# Altium footprint library Connector_Phoenix_GMSTB.PcbLib: 88 footprints (part 3 of 6)
Each footprint in its own frame and in the unit in brackets; x right, y up, seen from the top. Pads: shape width x height; smd on the part's side, far side on the other; paste and mask are expansions set on the pad; w line width, h text height; cw(c..) or ccw(c..) is an arc to the next point about the centre after c.
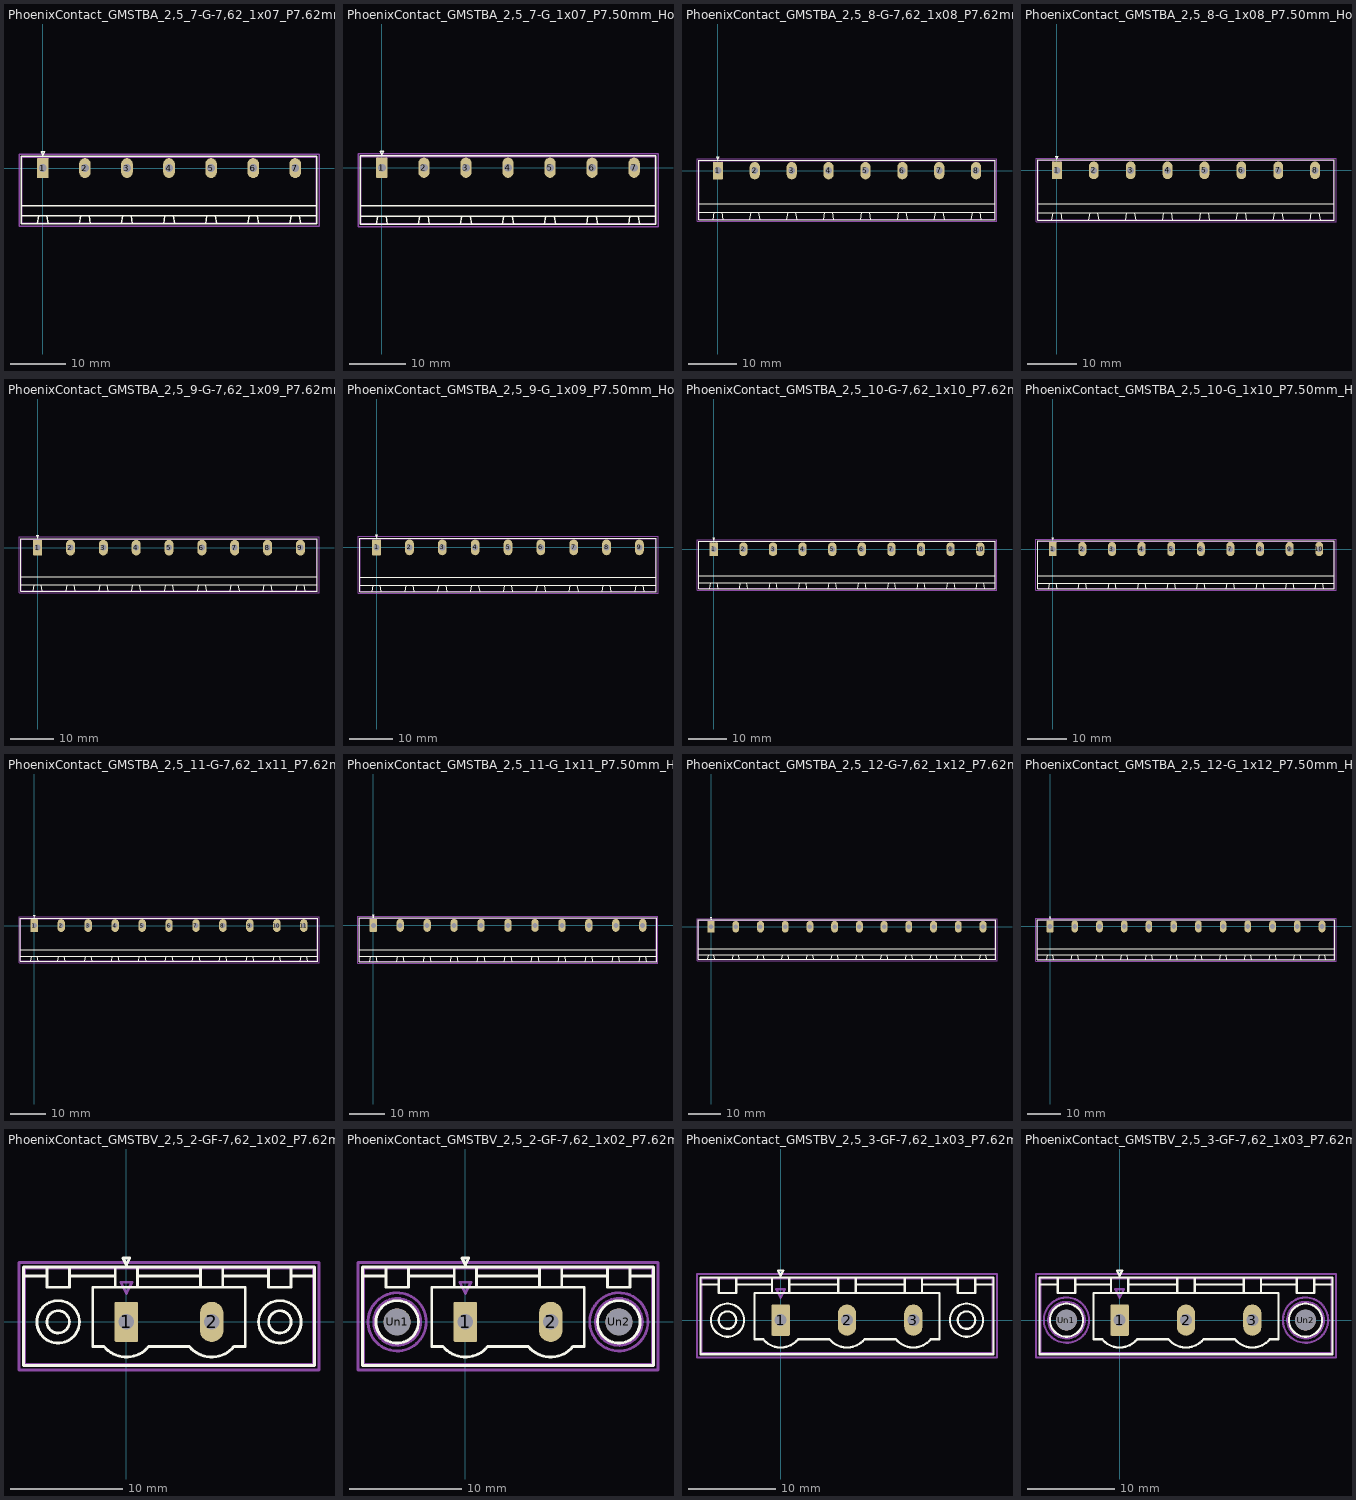
[diagram p2: the footprints below, top view; thin cyan lines are the x and y axes]

## PhoenixContact_GMSTBA_2,5_7-G-7,62_1x07_P7.62mm_Horizontal [mm]
pads (7):
  rrect12% 2.1x3.6 hole 1.4: 1(0,0)
  rrect100% 2.1x3.6 hole 1.4: 2(7.62,0) 3(15.24,0) 4(22.86,0) 5(30.48,0) 6(38.1,0) 7(45.72,0)
F.SilkS:
  lines w0.254: -3.92,-10.11 49.64,-10.11 49.64,2.11 -3.92,2.11 -3.92,-10.11 ; -3.92,-8.61 49.64,-8.61 49.64,-6.81 -3.92,-6.81 -3.92,-8.61 ; -1,-10.11 -0.75,-8.61 0.75,-8.61 1,-10.11 -1,-10.11 ; -0.3,2.91 0,2.31 0.3,2.91 -0.3,2.91 ; 6.62,-10.11 6.87,-8.61 8.37,-8.61 8.62,-10.11 6.62,-10.11 ; 14.24,-10.11 14.49,-8.61 15.99,-8.61 16.24,-10.11 14.24,-10.11 ; 21.86,-10.11 22.11,-8.61 23.61,-8.61 23.86,-10.11 21.86,-10.11 ; 29.48,-10.11 29.73,-8.61 31.23,-8.61 31.48,-10.11 29.48,-10.11 ; 37.1,-10.11 37.35,-8.61 38.85,-8.61 39.1,-10.11 37.1,-10.11 ; 44.72,-10.11 44.97,-8.61 46.47,-8.61 46.72,-10.11 44.72,-10.11
Top Assembly:
  lines w0.254: -0.95,2 0,0.5 0.95,2 ; -3.81,-10 49.53,-10 49.53,2 -3.81,2 -3.81,-10
  text "'.Designator'" at 18.813,0.46 h1
Top Courtyard:
  lines w0.254: -4.32,-10.5 50.03,-10.5 50.03,2.5 -4.32,2.5 -4.32,-10.5
Top Designator:
  text ".Designator" at 15.237,-4.303 h1.52

## PhoenixContact_GMSTBA_2,5_7-G_1x07_P7.50mm_Horizontal [mm]
pads (7):
  rrect12% 2x3.6 hole 1.4: 1(0,0)
  rrect100% 2x3.6 hole 1.4: 2(7.5,0) 3(15,0) 4(22.5,0) 5(30,0) 6(37.5,0) 7(45,0)
F.SilkS:
  lines w0.254: -3.86,-10.11 48.86,-10.11 48.86,2.11 -3.86,2.11 -3.86,-10.11 ; -3.86,-8.61 48.86,-8.61 48.86,-6.81 -3.86,-6.81 -3.86,-8.61 ; -1,-10.11 -0.75,-8.61 0.75,-8.61 1,-10.11 -1,-10.11 ; -0.3,2.91 0,2.31 0.3,2.91 -0.3,2.91 ; 6.5,-10.11 6.75,-8.61 8.25,-8.61 8.5,-10.11 6.5,-10.11 ; 14,-10.11 14.25,-8.61 15.75,-8.61 16,-10.11 14,-10.11 ; 21.5,-10.11 21.75,-8.61 23.25,-8.61 23.5,-10.11 21.5,-10.11 ; 29,-10.11 29.25,-8.61 30.75,-8.61 31,-10.11 29,-10.11 ; 36.5,-10.11 36.75,-8.61 38.25,-8.61 38.5,-10.11 36.5,-10.11 ; 44,-10.11 44.25,-8.61 45.75,-8.61 46,-10.11 44,-10.11
Top Assembly:
  lines w0.254: -0.95,2 0,0.5 0.95,2 ; -3.75,-10 48.75,-10 48.75,2 -3.75,2 -3.75,-10
  text "'.Designator'" at 18.453,0.46 h1
Top Courtyard:
  lines w0.254: -4.25,-10.5 49.25,-10.5 49.25,2.5 -4.25,2.5 -4.25,-10.5
Top Designator:
  text ".Designator" at 14.882,-4.303 h1.52

## PhoenixContact_GMSTBA_2,5_8-G-7,62_1x08_P7.62mm_Horizontal [mm]
pads (8):
  rrect12% 2.1x3.6 hole 1.4: 1(0,0)
  rrect100% 2.1x3.6 hole 1.4: 2(7.62,0) 3(15.24,0) 4(22.86,0) 5(30.48,0) 6(38.1,0) 7(45.72,0) 8(53.34,0)
F.SilkS:
  lines w0.254: -3.92,-10.11 57.26,-10.11 57.26,2.11 -3.92,2.11 -3.92,-10.11 ; -3.92,-8.61 57.26,-8.61 57.26,-6.81 -3.92,-6.81 -3.92,-8.61 ; -1,-10.11 -0.75,-8.61 0.75,-8.61 1,-10.11 -1,-10.11 ; -0.3,2.91 0,2.31 0.3,2.91 -0.3,2.91 ; 6.62,-10.11 6.87,-8.61 8.37,-8.61 8.62,-10.11 6.62,-10.11 ; 14.24,-10.11 14.49,-8.61 15.99,-8.61 16.24,-10.11 14.24,-10.11 ; 21.86,-10.11 22.11,-8.61 23.61,-8.61 23.86,-10.11 21.86,-10.11 ; 29.48,-10.11 29.73,-8.61 31.23,-8.61 31.48,-10.11 29.48,-10.11 ; 37.1,-10.11 37.35,-8.61 38.85,-8.61 39.1,-10.11 37.1,-10.11 ; 44.72,-10.11 44.97,-8.61 46.47,-8.61 46.72,-10.11 44.72,-10.11 ; 52.34,-10.11 52.59,-8.61 54.09,-8.61 54.34,-10.11 52.34,-10.11
Top Assembly:
  lines w0.254: -0.95,2 0,0.5 0.95,2 ; -3.81,-10 57.15,-10 57.15,2 -3.81,2 -3.81,-10
  text "'.Designator'" at 22.623,0.46 h1
Top Courtyard:
  lines w0.254: -4.32,-10.5 57.65,-10.5 57.65,2.5 -4.32,2.5 -4.32,-10.5
Top Designator:
  text ".Designator" at 19.047,-4.303 h1.52

## PhoenixContact_GMSTBA_2,5_8-G_1x08_P7.50mm_Horizontal [mm]
pads (8):
  rrect12% 2x3.6 hole 1.4: 1(0,0)
  rrect100% 2x3.6 hole 1.4: 2(7.5,0) 3(15,0) 4(22.5,0) 5(30,0) 6(37.5,0) 7(45,0) 8(52.5,0)
F.SilkS:
  lines w0.254: -3.86,-10.11 56.36,-10.11 56.36,2.11 -3.86,2.11 -3.86,-10.11 ; -3.86,-8.61 56.36,-8.61 56.36,-6.81 -3.86,-6.81 -3.86,-8.61 ; -1,-10.11 -0.75,-8.61 0.75,-8.61 1,-10.11 -1,-10.11 ; -0.3,2.91 0,2.31 0.3,2.91 -0.3,2.91 ; 6.5,-10.11 6.75,-8.61 8.25,-8.61 8.5,-10.11 6.5,-10.11 ; 14,-10.11 14.25,-8.61 15.75,-8.61 16,-10.11 14,-10.11 ; 21.5,-10.11 21.75,-8.61 23.25,-8.61 23.5,-10.11 21.5,-10.11 ; 29,-10.11 29.25,-8.61 30.75,-8.61 31,-10.11 29,-10.11 ; 36.5,-10.11 36.75,-8.61 38.25,-8.61 38.5,-10.11 36.5,-10.11 ; 44,-10.11 44.25,-8.61 45.75,-8.61 46,-10.11 44,-10.11 ; 51.5,-10.11 51.75,-8.61 53.25,-8.61 53.5,-10.11 51.5,-10.11
Top Assembly:
  lines w0.254: -0.95,2 0,0.5 0.95,2 ; -3.75,-10 56.25,-10 56.25,2 -3.75,2 -3.75,-10
  text "'.Designator'" at 22.203,0.46 h1
Top Courtyard:
  lines w0.254: -4.25,-10.5 56.75,-10.5 56.75,2.5 -4.25,2.5 -4.25,-10.5
Top Designator:
  text ".Designator" at 18.632,-4.303 h1.52

## PhoenixContact_GMSTBA_2,5_9-G-7,62_1x09_P7.62mm_Horizontal [mm]
pads (9):
  rrect12% 2.1x3.6 hole 1.4: 1(0,0)
  rrect100% 2.1x3.6 hole 1.4: 2(7.62,0) 3(15.24,0) 4(22.86,0) 5(30.48,0) 6(38.1,0) 7(45.72,0) 8(53.34,0) 9(60.96,0)
F.SilkS:
  lines w0.254: -3.92,-10.11 64.88,-10.11 64.88,2.11 -3.92,2.11 -3.92,-10.11 ; -3.92,-8.61 64.88,-8.61 64.88,-6.81 -3.92,-6.81 -3.92,-8.61 ; -1,-10.11 -0.75,-8.61 0.75,-8.61 1,-10.11 -1,-10.11 ; -0.3,2.91 0,2.31 0.3,2.91 -0.3,2.91 ; 6.62,-10.11 6.87,-8.61 8.37,-8.61 8.62,-10.11 6.62,-10.11 ; 14.24,-10.11 14.49,-8.61 15.99,-8.61 16.24,-10.11 14.24,-10.11 ; 21.86,-10.11 22.11,-8.61 23.61,-8.61 23.86,-10.11 21.86,-10.11 ; 29.48,-10.11 29.73,-8.61 31.23,-8.61 31.48,-10.11 29.48,-10.11 ; 37.1,-10.11 37.35,-8.61 38.85,-8.61 39.1,-10.11 37.1,-10.11 ; 44.72,-10.11 44.97,-8.61 46.47,-8.61 46.72,-10.11 44.72,-10.11 ; 52.34,-10.11 52.59,-8.61 54.09,-8.61 54.34,-10.11 52.34,-10.11 ; 59.96,-10.11 60.21,-8.61 61.71,-8.61 61.96,-10.11 59.96,-10.11
Top Assembly:
  lines w0.254: -0.95,2 0,0.5 0.95,2 ; -3.81,-10 64.77,-10 64.77,2 -3.81,2 -3.81,-10
  text "'.Designator'" at 26.433,0.46 h1
Top Courtyard:
  lines w0.254: -4.32,-10.5 65.27,-10.5 65.27,2.5 -4.32,2.5 -4.32,-10.5
Top Designator:
  text ".Designator" at 22.857,-4.303 h1.52

## PhoenixContact_GMSTBA_2,5_9-G_1x09_P7.50mm_Horizontal [mm]
pads (9):
  rrect12% 2x3.6 hole 1.4: 1(0,0)
  rrect100% 2x3.6 hole 1.4: 2(7.5,0) 3(15,0) 4(22.5,0) 5(30,0) 6(37.5,0) 7(45,0) 8(52.5,0) 9(60,0)
F.SilkS:
  lines w0.254: -3.86,-10.11 63.86,-10.11 63.86,2.11 -3.86,2.11 -3.86,-10.11 ; -3.86,-8.61 63.86,-8.61 63.86,-6.81 -3.86,-6.81 -3.86,-8.61 ; -1,-10.11 -0.75,-8.61 0.75,-8.61 1,-10.11 -1,-10.11 ; -0.3,2.91 0,2.31 0.3,2.91 -0.3,2.91 ; 6.5,-10.11 6.75,-8.61 8.25,-8.61 8.5,-10.11 6.5,-10.11 ; 14,-10.11 14.25,-8.61 15.75,-8.61 16,-10.11 14,-10.11 ; 21.5,-10.11 21.75,-8.61 23.25,-8.61 23.5,-10.11 21.5,-10.11 ; 29,-10.11 29.25,-8.61 30.75,-8.61 31,-10.11 29,-10.11 ; 36.5,-10.11 36.75,-8.61 38.25,-8.61 38.5,-10.11 36.5,-10.11 ; 44,-10.11 44.25,-8.61 45.75,-8.61 46,-10.11 44,-10.11 ; 51.5,-10.11 51.75,-8.61 53.25,-8.61 53.5,-10.11 51.5,-10.11 ; 59,-10.11 59.25,-8.61 60.75,-8.61 61,-10.11 59,-10.11
Top Assembly:
  lines w0.254: -0.95,2 0,0.5 0.95,2 ; -3.75,-10 63.75,-10 63.75,2 -3.75,2 -3.75,-10
  text "'.Designator'" at 25.953,0.46 h1
Top Courtyard:
  lines w0.254: -4.25,-10.5 64.25,-10.5 64.25,2.5 -4.25,2.5 -4.25,-10.5
Top Designator:
  text ".Designator" at 22.382,-4.303 h1.52

## PhoenixContact_GMSTBA_2,5_10-G-7,62_1x10_P7.62mm_Horizontal [mm]
pads (10):
  rrect12% 2.1x3.6 hole 1.4: 1(0,0)
  rrect100% 2.1x3.6 hole 1.4: 2(7.62,0) 3(15.24,0) 4(22.86,0) 5(30.48,0) 6(38.1,0) 7(45.72,0) 8(53.34,0) 9(60.96,0) 10(68.58,0)
F.SilkS:
  lines w0.254: -3.92,-10.11 72.5,-10.11 72.5,2.11 -3.92,2.11 -3.92,-10.11 ; -3.92,-8.61 72.5,-8.61 72.5,-6.81 -3.92,-6.81 -3.92,-8.61 ; -1,-10.11 -0.75,-8.61 0.75,-8.61 1,-10.11 -1,-10.11 ; -0.3,2.91 0,2.31 0.3,2.91 -0.3,2.91 ; 6.62,-10.11 6.87,-8.61 8.37,-8.61 8.62,-10.11 6.62,-10.11 ; 14.24,-10.11 14.49,-8.61 15.99,-8.61 16.24,-10.11 14.24,-10.11 ; 21.86,-10.11 22.11,-8.61 23.61,-8.61 23.86,-10.11 21.86,-10.11 ; 29.48,-10.11 29.73,-8.61 31.23,-8.61 31.48,-10.11 29.48,-10.11 ; 37.1,-10.11 37.35,-8.61 38.85,-8.61 39.1,-10.11 37.1,-10.11 ; 44.72,-10.11 44.97,-8.61 46.47,-8.61 46.72,-10.11 44.72,-10.11 ; 52.34,-10.11 52.59,-8.61 54.09,-8.61 54.34,-10.11 52.34,-10.11 ; 59.96,-10.11 60.21,-8.61 61.71,-8.61 61.96,-10.11 59.96,-10.11 ; 67.58,-10.11 67.83,-8.61 69.33,-8.61 69.58,-10.11 67.58,-10.11
Top Assembly:
  lines w0.254: -0.95,2 0,0.5 0.95,2 ; -3.81,-10 72.39,-10 72.39,2 -3.81,2 -3.81,-10
  text "'.Designator'" at 30.243,0.46 h1
Top Courtyard:
  lines w0.254: -4.32,-10.5 72.89,-10.5 72.89,2.5 -4.32,2.5 -4.32,-10.5
Top Designator:
  text ".Designator" at 26.667,-4.303 h1.52

## PhoenixContact_GMSTBA_2,5_10-G_1x10_P7.50mm_Horizontal [mm]
pads (10):
  rrect12% 2x3.6 hole 1.4: 1(0,0)
  rrect100% 2x3.6 hole 1.4: 2(7.5,0) 3(15,0) 4(22.5,0) 5(30,0) 6(37.5,0) 7(45,0) 8(52.5,0) 9(60,0) 10(67.5,0)
F.SilkS:
  lines w0.254: -3.86,-10.11 71.36,-10.11 71.36,2.11 -3.86,2.11 -3.86,-10.11 ; -3.86,-8.61 71.36,-8.61 71.36,-6.81 -3.86,-6.81 -3.86,-8.61 ; -1,-10.11 -0.75,-8.61 0.75,-8.61 1,-10.11 -1,-10.11 ; -0.3,2.91 0,2.31 0.3,2.91 -0.3,2.91 ; 6.5,-10.11 6.75,-8.61 8.25,-8.61 8.5,-10.11 6.5,-10.11 ; 14,-10.11 14.25,-8.61 15.75,-8.61 16,-10.11 14,-10.11 ; 21.5,-10.11 21.75,-8.61 23.25,-8.61 23.5,-10.11 21.5,-10.11 ; 29,-10.11 29.25,-8.61 30.75,-8.61 31,-10.11 29,-10.11 ; 36.5,-10.11 36.75,-8.61 38.25,-8.61 38.5,-10.11 36.5,-10.11 ; 44,-10.11 44.25,-8.61 45.75,-8.61 46,-10.11 44,-10.11 ; 51.5,-10.11 51.75,-8.61 53.25,-8.61 53.5,-10.11 51.5,-10.11 ; 59,-10.11 59.25,-8.61 60.75,-8.61 61,-10.11 59,-10.11 ; 66.5,-10.11 66.75,-8.61 68.25,-8.61 68.5,-10.11 66.5,-10.11
Top Assembly:
  lines w0.254: -0.95,2 0,0.5 0.95,2 ; -3.75,-10 71.25,-10 71.25,2 -3.75,2 -3.75,-10
  text "'.Designator'" at 29.703,0.46 h1
Top Courtyard:
  lines w0.254: -4.25,-10.5 71.75,-10.5 71.75,2.5 -4.25,2.5 -4.25,-10.5
Top Designator:
  text ".Designator" at 26.132,-4.303 h1.52

## PhoenixContact_GMSTBA_2,5_11-G-7,62_1x11_P7.62mm_Horizontal [mm]
pads (11):
  rrect12% 2.1x3.6 hole 1.4: 1(0,0)
  rrect100% 2.1x3.6 hole 1.4: 2(7.62,0) 3(15.24,0) 4(22.86,0) 5(30.48,0) 6(38.1,0) 7(45.72,0) 8(53.34,0) 9(60.96,0) 10(68.58,0) 11(76.2,0)
F.SilkS:
  lines w0.254: -3.92,-10.11 80.12,-10.11 80.12,2.11 -3.92,2.11 -3.92,-10.11 ; -3.92,-8.61 80.12,-8.61 80.12,-6.81 -3.92,-6.81 -3.92,-8.61 ; -1,-10.11 -0.75,-8.61 0.75,-8.61 1,-10.11 -1,-10.11 ; -0.3,2.91 0,2.31 0.3,2.91 -0.3,2.91 ; 6.62,-10.11 6.87,-8.61 8.37,-8.61 8.62,-10.11 6.62,-10.11 ; 14.24,-10.11 14.49,-8.61 15.99,-8.61 16.24,-10.11 14.24,-10.11 ; 21.86,-10.11 22.11,-8.61 23.61,-8.61 23.86,-10.11 21.86,-10.11 ; 29.48,-10.11 29.73,-8.61 31.23,-8.61 31.48,-10.11 29.48,-10.11 ; 37.1,-10.11 37.35,-8.61 38.85,-8.61 39.1,-10.11 37.1,-10.11 ; 44.72,-10.11 44.97,-8.61 46.47,-8.61 46.72,-10.11 44.72,-10.11 ; 52.34,-10.11 52.59,-8.61 54.09,-8.61 54.34,-10.11 52.34,-10.11 ; 59.96,-10.11 60.21,-8.61 61.71,-8.61 61.96,-10.11 59.96,-10.11 ; 67.58,-10.11 67.83,-8.61 69.33,-8.61 69.58,-10.11 67.58,-10.11 ; 75.2,-10.11 75.45,-8.61 76.95,-8.61 77.2,-10.11 75.2,-10.11
Top Assembly:
  lines w0.254: -0.95,2 0,0.5 0.95,2 ; -3.81,-10 80.01,-10 80.01,2 -3.81,2 -3.81,-10
  text "'.Designator'" at 34.053,0.46 h1
Top Courtyard:
  lines w0.254: -4.32,-10.5 80.51,-10.5 80.51,2.5 -4.32,2.5 -4.32,-10.5
Top Designator:
  text ".Designator" at 30.477,-4.303 h1.52

## PhoenixContact_GMSTBA_2,5_11-G_1x11_P7.50mm_Horizontal [mm]
pads (11):
  rrect12% 2x3.6 hole 1.4: 1(0,0)
  rrect100% 2x3.6 hole 1.4: 2(7.5,0) 3(15,0) 4(22.5,0) 5(30,0) 6(37.5,0) 7(45,0) 8(52.5,0) 9(60,0) 10(67.5,0) 11(75,0)
F.SilkS:
  lines w0.254: -3.86,-10.11 78.86,-10.11 78.86,2.11 -3.86,2.11 -3.86,-10.11 ; -3.86,-8.61 78.86,-8.61 78.86,-6.81 -3.86,-6.81 -3.86,-8.61 ; -1,-10.11 -0.75,-8.61 0.75,-8.61 1,-10.11 -1,-10.11 ; -0.3,2.91 0,2.31 0.3,2.91 -0.3,2.91 ; 6.5,-10.11 6.75,-8.61 8.25,-8.61 8.5,-10.11 6.5,-10.11 ; 14,-10.11 14.25,-8.61 15.75,-8.61 16,-10.11 14,-10.11 ; 21.5,-10.11 21.75,-8.61 23.25,-8.61 23.5,-10.11 21.5,-10.11 ; 29,-10.11 29.25,-8.61 30.75,-8.61 31,-10.11 29,-10.11 ; 36.5,-10.11 36.75,-8.61 38.25,-8.61 38.5,-10.11 36.5,-10.11 ; 44,-10.11 44.25,-8.61 45.75,-8.61 46,-10.11 44,-10.11 ; 51.5,-10.11 51.75,-8.61 53.25,-8.61 53.5,-10.11 51.5,-10.11 ; 59,-10.11 59.25,-8.61 60.75,-8.61 61,-10.11 59,-10.11 ; 66.5,-10.11 66.75,-8.61 68.25,-8.61 68.5,-10.11 66.5,-10.11 ; 74,-10.11 74.25,-8.61 75.75,-8.61 76,-10.11 74,-10.11
Top Assembly:
  lines w0.254: -0.95,2 0,0.5 0.95,2 ; -3.75,-10 78.75,-10 78.75,2 -3.75,2 -3.75,-10
  text "'.Designator'" at 33.453,0.46 h1
Top Courtyard:
  lines w0.254: -4.25,-10.5 79.25,-10.5 79.25,2.5 -4.25,2.5 -4.25,-10.5
Top Designator:
  text ".Designator" at 29.882,-4.303 h1.52

## PhoenixContact_GMSTBA_2,5_12-G-7,62_1x12_P7.62mm_Horizontal [mm]
pads (12):
  rrect12% 2.1x3.6 hole 1.4: 1(0,0)
  rrect100% 2.1x3.6 hole 1.4: 2(7.62,0) 3(15.24,0) 4(22.86,0) 5(30.48,0) 6(38.1,0) 7(45.72,0) 8(53.34,0) 9(60.96,0) 10(68.58,0) 11(76.2,0) 12(83.82,0)
F.SilkS:
  lines w0.254: -3.92,-10.11 87.74,-10.11 87.74,2.11 -3.92,2.11 -3.92,-10.11 ; -3.92,-8.61 87.74,-8.61 87.74,-6.81 -3.92,-6.81 -3.92,-8.61 ; -1,-10.11 -0.75,-8.61 0.75,-8.61 1,-10.11 -1,-10.11 ; -0.3,2.91 0,2.31 0.3,2.91 -0.3,2.91 ; 6.62,-10.11 6.87,-8.61 8.37,-8.61 8.62,-10.11 6.62,-10.11 ; 14.24,-10.11 14.49,-8.61 15.99,-8.61 16.24,-10.11 14.24,-10.11 ; 21.86,-10.11 22.11,-8.61 23.61,-8.61 23.86,-10.11 21.86,-10.11 ; 29.48,-10.11 29.73,-8.61 31.23,-8.61 31.48,-10.11 29.48,-10.11 ; 37.1,-10.11 37.35,-8.61 38.85,-8.61 39.1,-10.11 37.1,-10.11 ; 44.72,-10.11 44.97,-8.61 46.47,-8.61 46.72,-10.11 44.72,-10.11 ; 52.34,-10.11 52.59,-8.61 54.09,-8.61 54.34,-10.11 52.34,-10.11 ; 59.96,-10.11 60.21,-8.61 61.71,-8.61 61.96,-10.11 59.96,-10.11 ; 67.58,-10.11 67.83,-8.61 69.33,-8.61 69.58,-10.11 67.58,-10.11 ; 75.2,-10.11 75.45,-8.61 76.95,-8.61 77.2,-10.11 75.2,-10.11 ; 82.82,-10.11 83.07,-8.61 84.57,-8.61 84.82,-10.11 82.82,-10.11
Top Assembly:
  lines w0.254: -0.95,2 0,0.5 0.95,2 ; -3.81,-10 87.63,-10 87.63,2 -3.81,2 -3.81,-10
  text "'.Designator'" at 37.863,0.46 h1
Top Courtyard:
  lines w0.254: -4.32,-10.5 88.13,-10.5 88.13,2.5 -4.32,2.5 -4.32,-10.5
Top Designator:
  text ".Designator" at 34.287,-4.303 h1.52

## PhoenixContact_GMSTBA_2,5_12-G_1x12_P7.50mm_Horizontal [mm]
pads (12):
  rrect12% 2x3.6 hole 1.4: 1(0,0)
  rrect100% 2x3.6 hole 1.4: 2(7.5,0) 3(15,0) 4(22.5,0) 5(30,0) 6(37.5,0) 7(45,0) 8(52.5,0) 9(60,0) 10(67.5,0) 11(75,0) 12(82.5,0)
F.SilkS:
  lines w0.254: -3.86,-10.11 86.36,-10.11 86.36,2.11 -3.86,2.11 -3.86,-10.11 ; -3.86,-8.61 86.36,-8.61 86.36,-6.81 -3.86,-6.81 -3.86,-8.61 ; -1,-10.11 -0.75,-8.61 0.75,-8.61 1,-10.11 -1,-10.11 ; -0.3,2.91 0,2.31 0.3,2.91 -0.3,2.91 ; 6.5,-10.11 6.75,-8.61 8.25,-8.61 8.5,-10.11 6.5,-10.11 ; 14,-10.11 14.25,-8.61 15.75,-8.61 16,-10.11 14,-10.11 ; 21.5,-10.11 21.75,-8.61 23.25,-8.61 23.5,-10.11 21.5,-10.11 ; 29,-10.11 29.25,-8.61 30.75,-8.61 31,-10.11 29,-10.11 ; 36.5,-10.11 36.75,-8.61 38.25,-8.61 38.5,-10.11 36.5,-10.11 ; 44,-10.11 44.25,-8.61 45.75,-8.61 46,-10.11 44,-10.11 ; 51.5,-10.11 51.75,-8.61 53.25,-8.61 53.5,-10.11 51.5,-10.11 ; 59,-10.11 59.25,-8.61 60.75,-8.61 61,-10.11 59,-10.11 ; 66.5,-10.11 66.75,-8.61 68.25,-8.61 68.5,-10.11 66.5,-10.11 ; 74,-10.11 74.25,-8.61 75.75,-8.61 76,-10.11 74,-10.11 ; 81.5,-10.11 81.75,-8.61 83.25,-8.61 83.5,-10.11 81.5,-10.11
Top Assembly:
  lines w0.254: -0.95,2 0,0.5 0.95,2 ; -3.75,-10 86.25,-10 86.25,2 -3.75,2 -3.75,-10
  text "'.Designator'" at 37.203,0.46 h1
Top Courtyard:
  lines w0.254: -4.25,-10.5 86.75,-10.5 86.75,2.5 -4.25,2.5 -4.25,-10.5
Top Designator:
  text ".Designator" at 33.632,-4.303 h1.52

## PhoenixContact_GMSTBV_2,5_2-GF-7,62_1x02_P7.62mm_Vertical_ThreadedFlange [mm]
pads (2):
  rrect12% 2.1x3.6 hole 1.4: 1(0,0)
  rrect100% 2.1x3.6 hole 1.4: 2(7.62,0)
F.SilkS:
  circle w0.254: c13.72,0 r1.9
  circle w0.254: c13.72,0 r1
  circle w0.254: c-6.1,0 r1.9
  circle w0.254: c-6.1,0 r1
  lines w0.254: -9.21,4.1 -7.21,4.1 ; -5.1,4.1 -1,4.1 ; 1,4.1 6.62,4.1 ; 1.987,-2.216 cw(c0,-0.55) -2,-2.2 -3.01,-2.2 -3.01,3.1 10.63,3.1 10.63,-2.2 9.62,-2.2 ; 2,-2.2 5.62,-2.2 ccw(c7.62,-0.55) 9.607,-2.216 ; 8.62,4.1 12.72,4.1 ; 14.83,4.1 16.83,4.1 ; -9.21,-3.91 16.83,-3.91 16.83,4.91 -9.21,4.91 -9.21,-3.91 ; -7.1,3.1 -5.1,3.1 -5.1,4.91 -7.1,4.91 -7.1,3.1 ; -1,3.1 1,3.1 1,4.91 -1,4.91 -1,3.1 ; -0.3,5.71 0,5.11 0.3,5.71 -0.3,5.71 ; 6.62,3.1 8.62,3.1 8.62,4.91 6.62,4.91 6.62,3.1 ; 12.72,3.1 14.72,3.1 14.72,4.91 12.72,4.91 12.72,3.1
Top Assembly:
  lines w0.254: -9.1,-3.8 16.72,-3.8 16.72,4.8 -9.1,4.8 -9.1,-3.8 ; -0.5,3.55 0,2.55 0.5,3.55 -0.5,3.55
  text "'.Designator'" at -0.237,3.26 h1
Top Courtyard:
  lines w0.254: -9.6,-4.3 17.22,-4.3 17.22,5.3 -9.6,5.3 -9.6,-4.3
Top Designator:
  text ".Designator" at -3.808,0.197 h1.52

## PhoenixContact_GMSTBV_2,5_2-GF-7,62_1x02_P7.62mm_Vertical_ThreadedFlange_MountHole [mm]
pads (4):
  rrect12% 2.1x3.6 hole 1.4: 1(0,0)
  rrect100% 2.1x3.6 hole 1.4: 2(7.62,0)
  round 2.4 hole 2.4: Un1(-6.1,0) Un2(13.72,0)
F.SilkS:
  circle w0.254: c13.72,0 r1.9
  circle w0.254: c-6.1,0 r1.9
  lines w0.254: -9.21,4.1 -7.21,4.1 ; -5.1,4.1 -1,4.1 ; 1,4.1 6.62,4.1 ; 1.987,-2.216 cw(c0,-0.55) -2,-2.2 -3.01,-2.2 -3.01,3.1 10.63,3.1 10.63,-2.2 9.62,-2.2 ; 2,-2.2 5.62,-2.2 ccw(c7.62,-0.55) 9.607,-2.216 ; 8.62,4.1 12.72,4.1 ; 14.83,4.1 16.83,4.1 ; -9.21,-3.91 16.83,-3.91 16.83,4.91 -9.21,4.91 -9.21,-3.91 ; -7.1,3.1 -5.1,3.1 -5.1,4.91 -7.1,4.91 -7.1,3.1 ; -1,3.1 1,3.1 1,4.91 -1,4.91 -1,3.1 ; -0.3,5.71 0,5.11 0.3,5.71 -0.3,5.71 ; 6.62,3.1 8.62,3.1 8.62,4.91 6.62,4.91 6.62,3.1 ; 12.72,3.1 14.72,3.1 14.72,4.91 12.72,4.91 12.72,3.1
B.SilkS:
  circle w0.254: c13.72,0 r2.21
  circle w0.254: c-6.1,0 r2.21
Top Assembly:
  lines w0.254: -9.1,-3.8 16.72,-3.8 16.72,4.8 -9.1,4.8 -9.1,-3.8 ; -0.5,3.55 0,2.55 0.5,3.55 -0.5,3.55
  text "'.Designator'" at -0.237,3.26 h1
Bottom Assembly:
  circle w0.254: c13.72,0 r2.1
  circle w0.254: c-6.1,0 r2.1
Top Courtyard:
  lines w0.254: -9.6,-4.3 17.22,-4.3 17.22,5.3 -9.6,5.3 -9.6,-4.3
Bottom Courtyard:
  circle w0.254: c13.72,0 r2.6
  circle w0.254: c-6.1,0 r2.6
Top Designator:
  text ".Designator" at -3.808,0.197 h1.52

## PhoenixContact_GMSTBV_2,5_3-GF-7,62_1x03_P7.62mm_Vertical_ThreadedFlange [mm]
pads (3):
  rrect12% 2.1x3.6 hole 1.4: 1(0,0)
  rrect100% 2.1x3.6 hole 1.4: 2(7.62,0) 3(15.24,0)
F.SilkS:
  circle w0.254: c21.34,0 r1.9
  circle w0.254: c21.34,0 r1
  circle w0.254: c-6.1,0 r1.9
  circle w0.254: c-6.1,0 r1
  lines w0.254: -9.21,4.1 -7.21,4.1 ; -5.1,4.1 -1,4.1 ; 1,4.1 6.62,4.1 ; 1.987,-2.216 cw(c0,-0.55) -2,-2.2 -3.01,-2.2 -3.01,3.1 18.25,3.1 18.25,-2.2 17.24,-2.2 ; 2,-2.2 5.62,-2.2 ccw(c7.62,-0.55) 9.607,-2.216 ; 8.62,4.1 14.24,4.1 ; 9.62,-2.2 13.24,-2.2 ccw(c15.24,-0.55) 17.227,-2.216 ; 16.24,4.1 20.34,4.1 ; 22.45,4.1 24.45,4.1 ; -9.21,-3.91 24.45,-3.91 24.45,4.91 -9.21,4.91 -9.21,-3.91 ; -7.1,3.1 -5.1,3.1 -5.1,4.91 -7.1,4.91 -7.1,3.1 ; -1,3.1 1,3.1 1,4.91 -1,4.91 -1,3.1 ; -0.3,5.71 0,5.11 0.3,5.71 -0.3,5.71 ; 6.62,3.1 8.62,3.1 8.62,4.91 6.62,4.91 6.62,3.1 ; 14.24,3.1 16.24,3.1 16.24,4.91 14.24,4.91 14.24,3.1 ; 20.34,3.1 22.34,3.1 22.34,4.91 20.34,4.91 20.34,3.1
Top Assembly:
  lines w0.254: -9.1,-3.8 24.34,-3.8 24.34,4.8 -9.1,4.8 -9.1,-3.8 ; -0.5,3.55 0,2.55 0.5,3.55 -0.5,3.55
  text "'.Designator'" at 3.573,3.26 h1
Top Courtyard:
  lines w0.254: -9.6,-4.3 24.84,-4.3 24.84,5.3 -9.6,5.3 -9.6,-4.3
Top Designator:
  text ".Designator" at 0.002,0.197 h1.52

## PhoenixContact_GMSTBV_2,5_3-GF-7,62_1x03_P7.62mm_Vertical_ThreadedFlange_MountHole [mm]
pads (5):
  rrect12% 2.1x3.6 hole 1.4: 1(0,0)
  rrect100% 2.1x3.6 hole 1.4: 2(7.62,0) 3(15.24,0)
  round 2.4 hole 2.4: Un1(-6.1,0) Un2(21.34,0)
F.SilkS:
  circle w0.254: c21.34,0 r1.9
  circle w0.254: c-6.1,0 r1.9
  lines w0.254: -9.21,4.1 -7.21,4.1 ; -5.1,4.1 -1,4.1 ; 1,4.1 6.62,4.1 ; 1.987,-2.216 cw(c0,-0.55) -2,-2.2 -3.01,-2.2 -3.01,3.1 18.25,3.1 18.25,-2.2 17.24,-2.2 ; 2,-2.2 5.62,-2.2 ccw(c7.62,-0.55) 9.607,-2.216 ; 8.62,4.1 14.24,4.1 ; 9.62,-2.2 13.24,-2.2 ccw(c15.24,-0.55) 17.227,-2.216 ; 16.24,4.1 20.34,4.1 ; 22.45,4.1 24.45,4.1 ; -9.21,-3.91 24.45,-3.91 24.45,4.91 -9.21,4.91 -9.21,-3.91 ; -7.1,3.1 -5.1,3.1 -5.1,4.91 -7.1,4.91 -7.1,3.1 ; -1,3.1 1,3.1 1,4.91 -1,4.91 -1,3.1 ; -0.3,5.71 0,5.11 0.3,5.71 -0.3,5.71 ; 6.62,3.1 8.62,3.1 8.62,4.91 6.62,4.91 6.62,3.1 ; 14.24,3.1 16.24,3.1 16.24,4.91 14.24,4.91 14.24,3.1 ; 20.34,3.1 22.34,3.1 22.34,4.91 20.34,4.91 20.34,3.1
B.SilkS:
  circle w0.254: c21.34,0 r2.21
  circle w0.254: c-6.1,0 r2.21
Top Assembly:
  lines w0.254: -9.1,-3.8 24.34,-3.8 24.34,4.8 -9.1,4.8 -9.1,-3.8 ; -0.5,3.55 0,2.55 0.5,3.55 -0.5,3.55
  text "'.Designator'" at 3.573,3.26 h1
Bottom Assembly:
  circle w0.254: c21.34,0 r2.1
  circle w0.254: c-6.1,0 r2.1
Top Courtyard:
  lines w0.254: -9.6,-4.3 24.84,-4.3 24.84,5.3 -9.6,5.3 -9.6,-4.3
Bottom Courtyard:
  circle w0.254: c21.34,0 r2.6
  circle w0.254: c-6.1,0 r2.6
Top Designator:
  text ".Designator" at 0.002,0.197 h1.52